# EAGLE library part DF13-8P-1.25 (library Con_Hirose_Df13)
DF13-8P 1.25mm Pitch Miniature Crimping Connector.
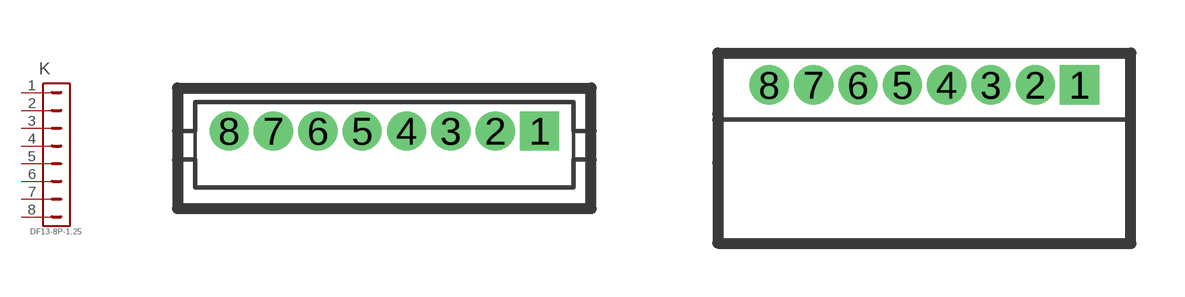
[diagram p2: symbol with the pads of DF13-8P-1.25DSA; footprints DF13-8P-1.25DSA, DF13-8P-1.25DS]

Designator prefix K

## DF13-8P-1.25DSA  [DF13-8P-1.25DSA]
1  1  pas
2  2  pas
3  3  pas
4  4  pas
5  5  pas
6  6  pas
7  7  pas
8  8  pas

## DF13-8P-1.25DS  [DF13-8P-1.25DS]
Pads as for DF13-8P-1.25DSA

## DF13-8P-1.25V  [DF13C-8P-1.25V]
P$1  1  pas
P$2  2  pas
P$3  3  pas
P$4  4  pas
P$5  5  pas
P$6  6  pas
P$7  7  pas
P$8  8  pas

## DF13-8P-1.25H  [DF13A-8P-1.25H]
Pads as for DF13C-8P-1.25V

## Footprint DF13-8P-1.25DSA (pad centres in mm)
Single Row Straight Pin Header (Through hole)
drill 0.6 pad 1.016 square: 1 4.375,0
drill 0.6 pad 1.016: 2 3.125,0; 3 1.875,0; 4 0.625,0; 5 -0.625,0; 6 -1.875,0; 7 -3.125,0; 8 -4.375,0

## Footprint DF13-8P-1.25DS (pad centres in mm)
Single Row Right Angle Pin Header (Through hole)
drill 0.6 pad 1.016 square: 1 4.375,0
drill 0.6 pad 1.016: 2 3.125,0; 3 1.875,0; 4 0.625,0; 5 -0.625,0; 6 -1.875,0; 7 -3.125,0; 8 -4.375,0

## Footprint DF13C-8P-1.25V (pad centres in mm)
Single Row Straight Pin Header (SMT)
smd 1.6 x 2.2: M$0 6.825,-1.8; M$1 -6.825,-1.8
smd 0.7 x 1.8: P$1 -4.375,0.9; P$2 -3.125,0.9; P$3 -1.875,0.9; P$4 -0.625,0.9; P$5 0.625,0.9; P$6 1.875,0.9; P$7 3.125,0.9; P$8 4.375,0.9

## Footprint DF13A-8P-1.25H (pad centres in mm)
Single Row Straight Pin Header (SMT)
smd 1.6 x 2.2: M$0 -6.725,2.4; M$1 6.725,2.4
smd 0.7 x 1.8: P$1 -4.375,-0.9; P$2 -3.125,-0.9; P$3 -1.875,-0.9; P$4 -0.625,-0.9; P$5 0.625,-0.9; P$6 1.875,-0.9; P$7 3.125,-0.9; P$8 4.375,-0.9